# EAGLE library part J00-00XX (library Radicon_connectors)
PULSE J00-00XX RJ-45 + LEDs + Transformer
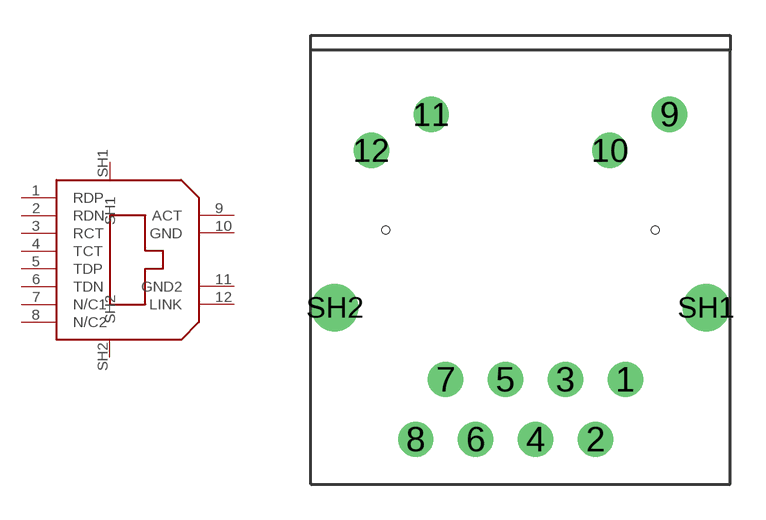
[diagram p9: symbol with the pads of RJ-45-LEDS; footprint RJ-45-LEDS]

Designator prefix J

## J00-00XX  [RJ-45-LEDS]
1  RDP
2  RDN
3  RCT
4  TCT
5  TDP
6  TDN
7  N/C1  nc
8  N/C2  nc
9  ACT
10  GND
11  GND2
12  LINK
SH1  SH1  pwr
SH2  SH2  pwr

## Footprint RJ-45-LEDS (pad centres in mm)
drill 0.8 pad 1.5: 1 4.445,2.54; 2 3.175,0; 3 1.905,2.54; 4 0.635,0; 5 -0.635,2.54; 6 -1.905,0; 7 -3.175,2.54; 8 -4.445,0; 9 6.325,13.792; 10 3.785,12.268; 11 -3.785,13.792; 12 -6.325,12.268
drill 0.8 pad 2: SH1 7.874,5.588; SH2 -7.874,5.588
hole 0.33 at -5.715,8.89
hole 0.33 at 5.715,8.89